# Altium footprint library RES-SMD-0805.PcbLib: 70 footprints (part 5 of 5)
Each footprint in its own frame and in the unit in brackets; x right, y up, seen from the top. Pads: shape width x height; smd on the part's side, far side on the other; paste and mask are expansions set on the pad; w line width, h text height; cw(c..) or ccw(c..) is an arc to the next point about the centre after c.
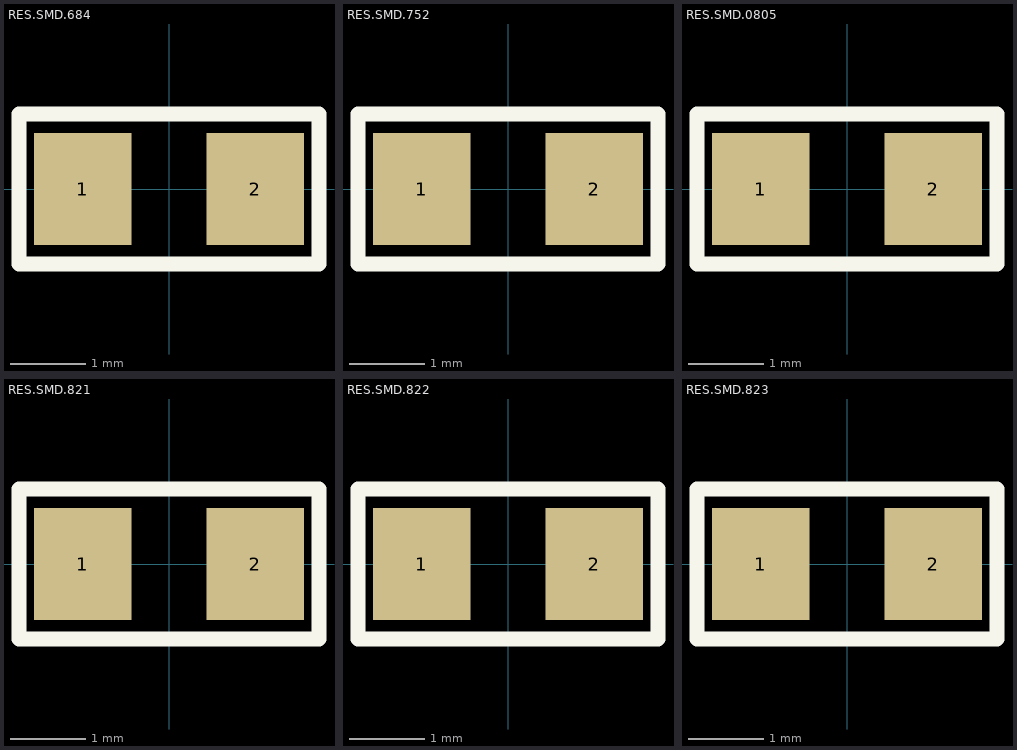
[diagram p4: the footprints below, top view; thin cyan lines are the x and y axes]

## RES.SMD.684 [mm] "5% 0805 1/8W RES.SMD"
pads (2):
  rect 1.3x1.5 smd: 1(-1.15,0) 2(1.15,0)
Top Overlay:
  lines w0.2: -2,-1 2,-1 2,1 -2,1 -2,-1
3D body "RES-SMD-684.stp": height 0.48, standoff -0.02, extent -0.873,-0.625 1.127,0.625

## RES.SMD.752 [mm] "5% 0805 1/8W RES.SMD"
pads (2):
  rect 1.3x1.5 smd: 1(-1.15,0) 2(1.15,0)
Top Overlay:
  lines w0.2: -2,-1 2,-1 2,1 -2,1 -2,-1
3D body "RES-SMD-752.stp": height 0.48, standoff -0.02, extent -0.873,-0.625 1.127,0.625

## RES.SMD.0805 [mm] "5% 0805 1/8W RES.SMD"
pads (2):
  rect 1.3x1.5 smd: 1(-1.15,0) 2(1.15,0)
Top Overlay:
  lines w0.2: -2,-1 -2,1 2,1 2,-1 -2,-1
3D body "RES-SMD-000.stp": height 0.48, standoff -0.02, extent -1,-0.625 1,0.625

## RES.SMD.821 [mm] "5% 0805 1/8W RES.SMD"
pads (2):
  rect 1.3x1.5 smd: 1(-1.15,0) 2(1.15,0)
Top Overlay:
  lines w0.2: -2,-1 2,-1 2,1 -2,1 -2,-1
3D body "RES-SMD-821.stp": height 0.48, standoff -0.02, extent -0.873,-0.625 1.127,0.625

## RES.SMD.822 [mm] "5% 0805 1/8W RES.SMD"
pads (2):
  rect 1.3x1.5 smd: 1(-1.15,0) 2(1.15,0)
Top Overlay:
  lines w0.2: -2,-1 2,-1 2,1 -2,1 -2,-1
3D body "RES-SMD-822.stp": height 0.48, standoff -0.02, extent -0.873,-0.625 1.127,0.625

## RES.SMD.823 [mm] "5% 0805 1/8W RES.SMD"
pads (2):
  rect 1.3x1.5 smd: 1(-1.15,0) 2(1.15,0)
Top Overlay:
  lines w0.2: -2,-1 -2,1 2,1 2,-1 -2,-1
3D body "RES-SMD-823.stp": height 0.48, standoff -0.02, extent -0.873,-0.625 1.127,0.625